# Altium footprint library CHOCO_KEYBOARD.PcbLib: 18 footprints (part 1 of 2)
Each footprint in its own frame and in the unit in brackets; x right, y up, seen from the top. Pads: shape width x height; smd on the part's side, far side on the other; paste and mask are expansions set on the pad; w line width, h text height; cw(c..) or ccw(c..) is an arc to the next point about the centre after c.
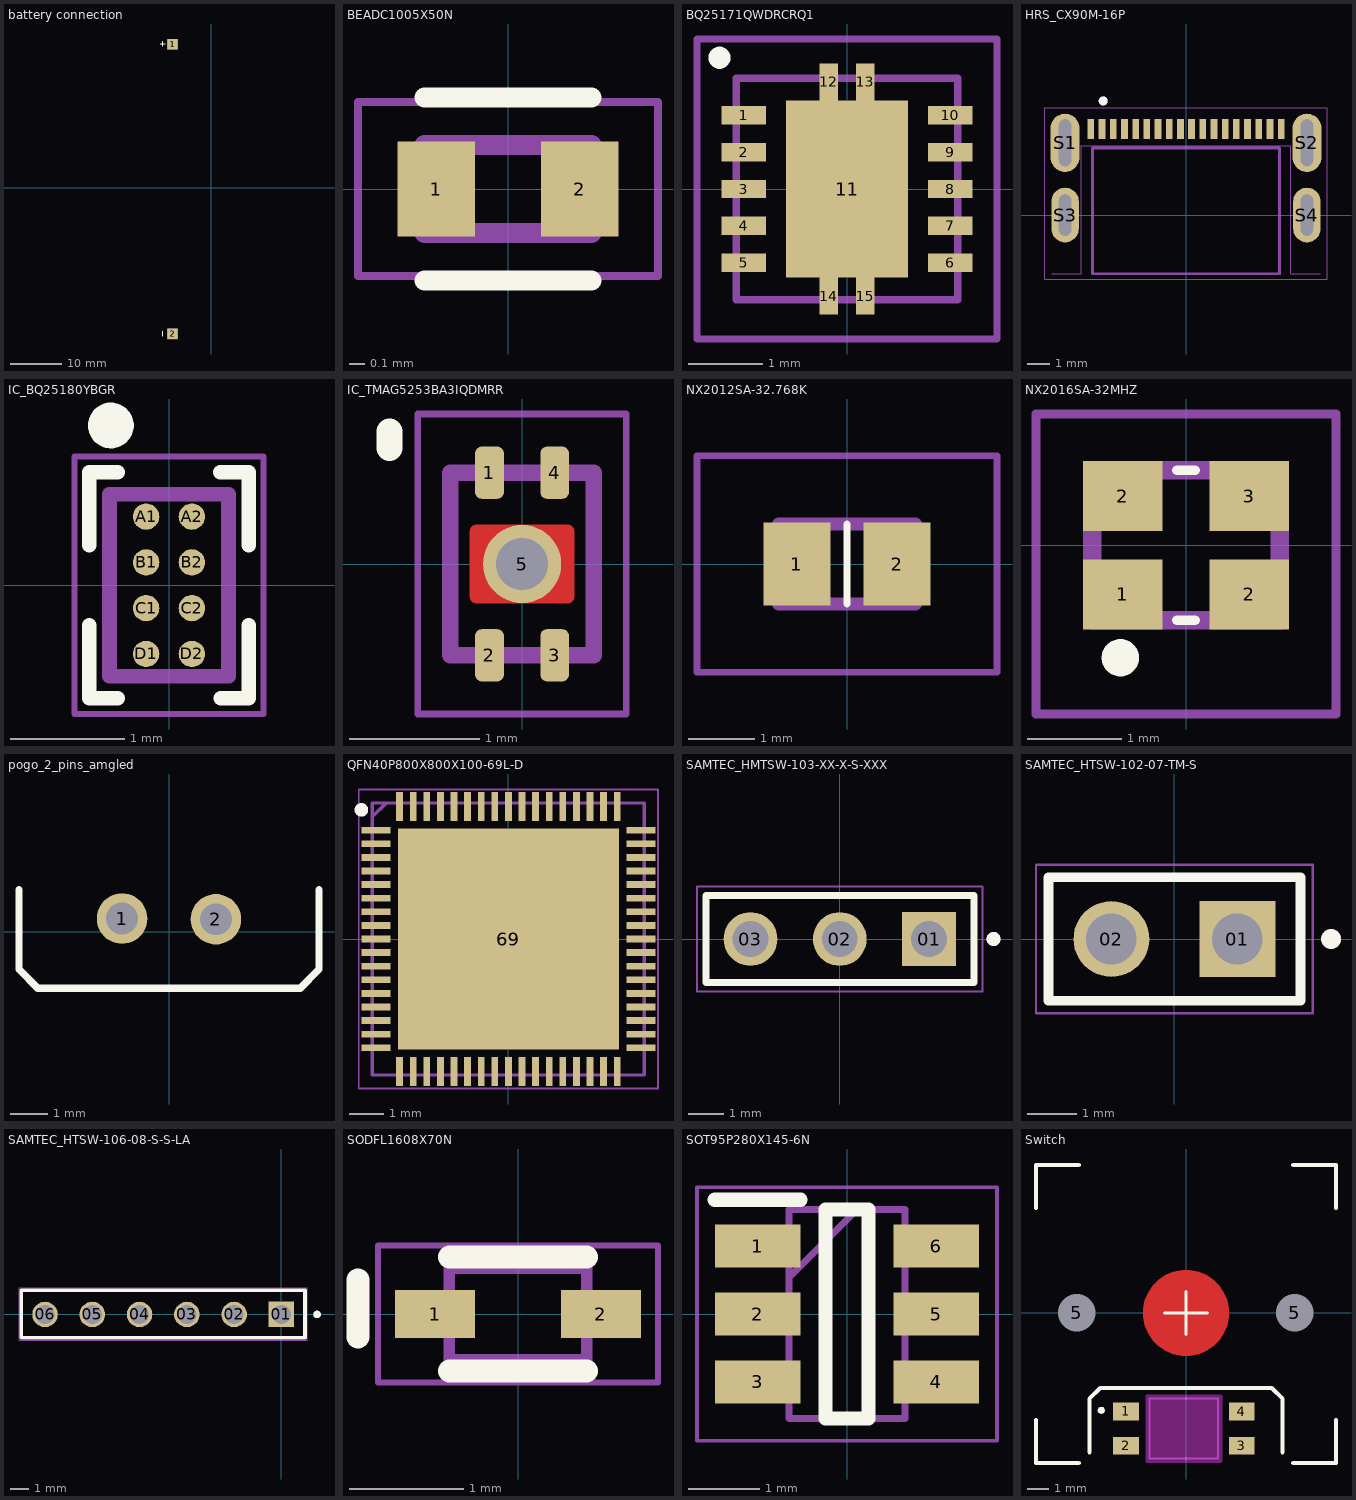
[diagram p0: the footprints below, top view; thin cyan lines are the x and y axes]

## battery connection [mm]
pads (4):
  rect 2x2 smd: 1(-7.5,27.9) 2(-7.5,-28.4)
  rect 2x2 smd far side: 1(-7.5,27.9) 2(-7.5,-28.4)
Top Overlay:
  lines w0.2: -9.9,28 -8.9,28 ; -9.4,-28.9 -9.4,-27.9 ; -9.4,27.5 -9.4,28.5
3D body "User Library-SAFT AA.step": height 9.11, standoff -5.11, extent -3.5,-25.396 10.724,24.896
3D body "battery_holder.STEP": height 8.9, standoff -4.9, extent -10.475,24.9 10.725,28.9
3D body "battery_holder.STEP": height 8.9, standoff -4.9, extent -10.475,-29.4 10.725,-25.4

## BEADC1005X50N [mm]
pads (2):
  rect 0.49x0.6 smd: 1(-0.455,0) 2(0.455,0)
Top Overlay:
  lines w0.127: -0.53,-0.58 0.53,-0.58 ; -0.53,0.58 0.53,0.58
Mechanical 13:
  lines w0.127: -0.53,-0.28 -0.53,0.28 0.53,0.28 0.53,-0.28 -0.53,-0.28
Mechanical 15:
  lines w0.05: -0.95,-0.55 -0.95,0.55 0.95,0.55 0.95,-0.55 -0.95,-0.55
3D body "step_temp.STEP": height 0.55, standoff 0, extent -0.5,-0.25 0.5,0.25

## BQ25171QWDRCRQ1 [mm]
pads (15):
  rect 0.6x0.25 smd: 1(-1.4,1) 2(-1.4,0.5) 3(-1.4,0) 4(-1.4,-0.5) 5(-1.4,-1) 6(1.4,-1) 7(1.4,-0.5) 8(1.4,0) 9(1.4,0.5) 10(1.4,1)
  rect 1.65x2.4 smd: 11(0,0)
  rect 0.25x0.5 smd: 12(-0.25,1.45) 13(0.25,1.45) 14(-0.25,-1.45) 15(0.25,-1.45)
Top Overlay:
  lines w0.2: -1.778,1.778 ccw(c-1.728,1.778) -1.678,1.778 ; -1.778,1.778 cw(c-1.728,1.778) -1.678,1.778 ; -1.778,1.778 ccw(c-1.728,1.778) -1.678,1.778
Mechanical 13:
  lines w0.1: -1.5,-1.5 1.5,-1.5 1.5,1.5 -1.5,1.5 -1.5,-1.5
Mechanical 15:
  lines w0.1: -2.032,-2.032 2.032,-2.032 2.032,2.032 -2.032,2.032 -2.032,-2.032
3D body "BQ25171QWDRCRQ1.stp": height 1, standoff 0, extent -1.5,-1.5 1.5,1.5

## HRS_CX90M-16P [mm]
pads (22):
  rect 0.3x0.9 smd: A1(-3.75,3.85) A4(-2.75,3.85) A5(-1.75,3.85) A6(-0.75,3.85) A7(0.75,3.85) A8(1.75,3.85) A9(2.75,3.85) A12(3.75,3.85) B1(3.25,3.85) B4(2.25,3.85) B5(1.25,3.85) B6(0.25,3.85) B7(-0.25,3.85) B8(-1.25,3.85) B9(-2.25,3.85) B12(-3.25,3.85) MID1(-4.25,3.85) MID2(4.25,3.85)
  oval 1.3x2.6 hole 0.55 slot 2.1 at 90 deg: S1(-5.4,3.23) S2(5.4,3.23)
  oval 1.225x2.45 hole 0.55 slot 1.85 at 90 deg: S3(-5.4,0) S4(5.4,0)
Top Overlay:
  circle w0.2: c-3.7,5.1 r0.1
Mechanical 1:
  lines w0.01: -6,-2.62 -4.675,-2.62 -4.675,3.1 4.675,3.1 4.675,-2.62 6,-2.62
Mechanical 13:
  circle w0.2: c-3.7,5.1 r0.1
  lines w0.127: -4.17,-2.62 -4.17,3 4.17,3 4.17,-2.62 -4.17,-2.62
  text "PCB EDGE" at -3.9,-2.5 h0.41
Mechanical 15:
  lines w0.05: -6.3,-2.87 -6.3,4.8 6.3,4.8 6.3,-2.87 -6.3,-2.87
3D body "CX90M-16P--3DModel-STEP-1.STEP": height 1.61, standoff -1.36, extent -5.5,-2.51 5.5,4.04

## IC_BQ25180YBGR [mm]
pads (8):
  round 0.23 smd paste-1 mask+0.05: A1(-0.2,0.6) A2(0.2,0.6) B1(-0.2,0.2) B2(0.2,0.2) C1(-0.2,-0.2) C2(0.2,-0.2) D1(-0.2,-0.6) D2(0.2,-0.6)
Top Overlay:
  circle w0.2: c-0.508,1.397 r0.1
  lines w0.127: -0.695,-0.35 -0.695,-0.988 -0.45,-0.988 ; -0.695,0.35 -0.695,0.988 -0.45,0.988 ; 0.45,0.988 0.695,0.988 0.695,0.35 ; 0.452,-0.988 0.697,-0.988 0.697,-0.35
Top Paste:
  drawing of 8 lines, arcs and shapes, not listed
Mechanical 13:
  lines w0.127: -0.52,-0.795 0.52,-0.795 0.52,0.795 -0.52,0.795 -0.52,-0.795
Mechanical 15:
  lines w0.05: -0.825,-1.125 0.825,-1.125 0.825,1.125 -0.825,1.125 -0.825,-1.125
3D body "step_temp.STEP": height 0.5, standoff 0, extent -0.52,-0.795 0.52,0.795

## IC_TMAG5253BA3IQDMRR [mm]
height 0.4
pads (5):
  rrect45% 0.22x0.4 smd mask+0: 1(-0.25,0.7) 2(-0.25,-0.7) 3(0.25,-0.7) 4(0.25,0.7)
  round 0.6 hole 0.4 mask+0: 5(0,0)
Top Layer:
  region: 0.358,0.299 0.36,0.299 0.363,0.298 0.365,0.298 0.368,0.297 0.37,0.296 0.373,0.295 0.375,0.293 0.377,0.292 0.379,0.29 0.381,0.289 0.383,0.287 0.385,0.285 0.387,0.283 0.389,0.281 0.39,0.279 0.392,0.277 0.393,0.275 0.395,0.273 0.396,0.27 0.397,0.268 0.398,0.265 0.398,0.263 0.399,0.26 0.399,0.258 0.4,0.255 0.4,0.253 0.4,0.25 0.4,-0.25 0.4,-0.253 0.4,-0.255 0.399,-0.258 0.399,-0.26 0.398,-0.263 0.398,-0.265 0.397,-0.268 0.396,-0.27 0.395,-0.273 0.393,-0.275 0.392,-0.277 0.39,-0.279 0.389,-0.281 0.387,-0.283 0.385,-0.285 0.383,-0.287 0.381,-0.289 0.379,-0.29 0.377,-0.292 0.375,-0.293 0.373,-0.295 0.37,-0.296 0.368,-0.297 0.365,-0.298 0.363,-0.298 0.36,-0.299 0.358,-0.299 0.355,-0.3 -0.355,-0.3 -0.358,-0.299 -0.36,-0.299 -0.363,-0.298 -0.365,-0.298 -0.368,-0.297 -0.37,-0.296 -0.373,-0.295 -0.375,-0.293 -0.377,-0.292 -0.379,-0.29 -0.381,-0.289 -0.383,-0.287 -0.385,-0.285 -0.387,-0.283 -0.389,-0.281 -0.39,-0.279 -0.392,-0.277 -0.393,-0.275 -0.395,-0.273 -0.396,-0.27 -0.397,-0.268 -0.398,-0.265 -0.398,-0.263 -0.399,-0.26 -0.399,-0.258 -0.4,-0.255 -0.4,-0.253 -0.4,-0.25 -0.4,0.25 -0.4,0.253 -0.4,0.255 -0.399,0.258 -0.399,0.26 -0.398,0.263 -0.398,0.265 -0.397,0.268 -0.396,0.27 -0.395,0.273 -0.393,0.275 -0.392,0.277 -0.39,0.279 -0.389,0.281 -0.387,0.283 -0.385,0.285 -0.383,0.287 -0.381,0.289 -0.379,0.29 -0.377,0.292 -0.375,0.293 -0.373,0.295 -0.37,0.296 -0.368,0.297 -0.365,0.298 -0.363,0.298 -0.36,0.299 -0.358,0.299 -0.355,0.3 0.355,0.3
Top Overlay:
  lines w0.2: -1.016,0.889 -1.016,1.016
Top Paste:
  region: 0.338,0.284 0.34,0.284 0.343,0.283 0.345,0.283 0.348,0.282 0.35,0.281 0.353,0.28 0.355,0.278 0.357,0.277 0.359,0.275 0.361,0.274 0.363,0.272 0.365,0.27 0.367,0.268 0.369,0.266 0.37,0.264 0.372,0.262 0.373,0.26 0.375,0.258 0.376,0.255 0.377,0.253 0.378,0.25 0.378,0.248 0.379,0.245 0.379,0.243 0.38,0.24 0.38,0.238 0.38,0.235 0.38,-0.235 0.38,-0.238 0.38,-0.24 0.379,-0.243 0.379,-0.245 0.378,-0.248 0.378,-0.25 0.377,-0.253 0.376,-0.255 0.375,-0.258 0.373,-0.26 0.372,-0.262 0.37,-0.264 0.369,-0.266 0.367,-0.268 0.365,-0.27 0.363,-0.272 0.361,-0.274 0.359,-0.275 0.357,-0.277 0.355,-0.278 0.353,-0.28 0.35,-0.281 0.348,-0.282 0.345,-0.283 0.343,-0.283 0.34,-0.284 0.338,-0.284 0.335,-0.285 -0.335,-0.285 -0.338,-0.284 -0.34,-0.284 -0.343,-0.283 -0.345,-0.283 -0.348,-0.282 -0.35,-0.281 -0.353,-0.28 -0.355,-0.278 -0.357,-0.277 -0.359,-0.275 -0.361,-0.274 -0.363,-0.272 -0.365,-0.27 -0.367,-0.268 -0.369,-0.266 -0.37,-0.264 -0.372,-0.262 -0.373,-0.26 -0.375,-0.258 -0.376,-0.255 -0.377,-0.253 -0.378,-0.25 -0.378,-0.248 -0.379,-0.245 -0.379,-0.243 -0.38,-0.24 -0.38,-0.238 -0.38,-0.235 -0.38,0.235 -0.38,0.238 -0.38,0.24 -0.379,0.243 -0.379,0.245 -0.378,0.248 -0.378,0.25 -0.377,0.253 -0.376,0.255 -0.375,0.258 -0.373,0.26 -0.372,0.262 -0.37,0.264 -0.369,0.266 -0.367,0.268 -0.365,0.27 -0.363,0.272 -0.361,0.274 -0.359,0.275 -0.357,0.277 -0.355,0.278 -0.353,0.28 -0.35,0.281 -0.348,0.282 -0.345,0.283 -0.343,0.283 -0.34,0.284 -0.338,0.284 -0.335,0.285 0.335,0.285
Top Solder:
  drawing of 5 lines, arcs and shapes, not listed
Mechanical 13:
  lines w0.127: -0.55,-0.7 -0.55,0.7 0.55,0.7 0.55,-0.7 -0.55,-0.7
Mechanical 15:
  lines w0.05: -0.8,-1.15 0.8,-1.15 0.8,1.15 -0.8,1.15 -0.8,-1.15
3D body "step_temp.STEP": height 0.4, standoff 0, extent -0.55,-0.7 0.55,0.7

## NX2012SA-32.768K [mm]
pads (2):
  rect 1x1.25 smd: 1(-0.75,0) 2(0.75,0)
Top Overlay:
  lines w0.1: 0,-0.6 0,0.6 0,-0.6
Mechanical 13:
  lines w0.2: -1.025,-0.6 1.025,-0.6 1.025,0.6 -1.025,0.6 -1.025,-0.6
Mechanical 15:
  lines w0.1: -2.25,-1.625 2.25,-1.625 2.25,1.625 -2.25,1.625 -2.25,-1.625
3D body "NX2012SA-32.768K-STD-MUB-1.stp": height 0.55, standoff 0, extent -1.025,-0.6 1.025,0.6

## NX2016SA-32MHZ [mm]
pads (4):
  rect 0.85x0.75 smd: 1(-0.675,-0.525) 2(-0.675,0.525) 2(0.675,-0.525) 3(0.675,0.525)
Top Overlay:
  lines w0.1: -0.1,-0.8 0.1,-0.8 ; -0.1,0.8 0.1,0.8
  lines w0.2: -0.8,-1.2 ccw(c-0.7,-1.2) -0.6,-1.2 ccw(c-0.7,-1.2) -0.8,-1.2
Mechanical 13:
  lines w0.2: -1,-0.8 -1,0.8 1,0.8 1,-0.8 -1,-0.8
Mechanical 15:
  lines w0.1: -1.6,-1.8 -1.6,1.4 1.6,1.4 1.6,-1.8 -1.6,-1.8
3D body "NX2016SA-26MHZ-EXS00A-CS06025.stp": height 0.46, standoff 0.01, extent -1,-0.73 1,0.87

## pogo_2_pins_amgled [mm]
pads (2):
  round 1.35 hole 0.85: 1(-1.25,0.356) 2(1.25,0.339)
Top Overlay:
  lines w0.2: -4,1.125 -4,-1 -3.5,-1.5 3.5,-1.5 4,-1 4,1.125
3D body "pogo pins connector.STEP": height 4.08, standoff -1.57, extent -7.25,-0.006 7.25,6

## QFN40P800X800X100-69L-D [mm]
pads (69):
  rect 0.85x0.2 smd: 1(-3.9,3.2) 2(-3.9,2.8) 3(-3.9,2.4) 4(-3.9,2) 5(-3.9,1.6) 6(-3.9,1.2) 7(-3.9,0.8) 8(-3.9,0.4) 9(-3.9,0) 10(-3.9,-0.4) 11(-3.9,-0.8) 12(-3.9,-1.2) 13(-3.9,-1.6) 14(-3.9,-2) 15(-3.9,-2.4) 16(-3.9,-2.8) 17(-3.9,-3.2) 35(3.9,-3.2) 36(3.9,-2.8) 37(3.9,-2.4) 38(3.9,-2) 39(3.9,-1.6) 40(3.9,-1.2) 41(3.9,-0.8) 42(3.9,-0.4) 43(3.9,0) 44(3.9,0.4) 45(3.9,0.8) 46(3.9,1.2) 47(3.9,1.6) 48(3.9,2) 49(3.9,2.4) 50(3.9,2.8) 51(3.9,3.2)
  rect 0.2x0.85 smd: 18(-3.2,-3.9) 19(-2.8,-3.9) 20(-2.4,-3.9) 21(-2,-3.9) 22(-1.6,-3.9) 23(-1.2,-3.9) 24(-0.8,-3.9) 25(-0.4,-3.9) 26(0,-3.9) 27(0.4,-3.9) 28(0.8,-3.9) 29(1.2,-3.9) 30(1.6,-3.9) 31(2,-3.9) 32(2.4,-3.9) 33(2.8,-3.9) 34(3.2,-3.9) 52(3.2,3.9) 53(2.8,3.9) 54(2.4,3.9) 55(2,3.9) 56(1.6,3.9) 57(1.2,3.9) 58(0.8,3.9) 59(0.4,3.9) 60(0,3.9) 61(-0.4,3.9) 62(-0.8,3.9) 63(-1.2,3.9) 64(-1.6,3.9) 65(-2,3.9) 66(-2.4,3.9) 67(-2.8,3.9) 68(-3.2,3.9)
  rect 6.5x6.5 smd: 69(0,0)
Top Overlay:
  circle w0.2: c-4.325,3.8 r0.1
Mechanical 15:
  lines w0.1: -4,3.6 -3.6,4 ; -4,-4 4,-4 4,4 -4,4 -4,-4
Mechanical 20:
  lines w0.05: -4.4,-4.4 4.4,-4.4 4.4,4.4 -4.4,4.4 -4.4,-4.4

## SAMTEC_HMTSW-103-XX-X-S-XXX [mm]
pads (3):
  rect 1.53x1.53 hole 1.02: 01(2.54,0)
  round 1.53 hole 1.02: 02(0,0) 03(-2.54,0)
Top Overlay:
  circle w0.2: c4.37,0 r0.1
  lines w0.2: -3.81,-1.24 3.81,-1.24 3.81,1.24 -3.81,1.24 -3.81,-1.24
Mechanical 13:
  circle w0.2: c4.37,0 r0.1
  lines w0.1: -3.81,-1.24 -3.81,1.24 3.81,1.24 3.81,-1.24 -3.81,-1.24
Mechanical 15:
  lines w0.05: -4.06,-1.49 -4.06,1.49 4.06,1.49 4.06,-1.49 -4.06,-1.49

## SAMTEC_HTSW-102-07-TM-S [mm]
pads (2):
  rect 1.53x1.53 hole 1.02: 01(1.27,0)
  round 1.53 hole 1.02: 02(-1.27,0)
Top Overlay:
  circle w0.2: c3.16,0 r0.1
  lines w0.2: -2.54,-1.245 -2.54,1.245 2.54,1.245 2.54,-1.245 -2.54,-1.245
Mechanical 13:
  circle w0.2: c3.16,0 r0.1
  lines w0.1: -2.54,-1.245 -2.54,1.245 2.54,1.245 2.54,-1.245 -2.54,-1.245
Mechanical 15:
  lines w0.05: -2.79,-1.495 -2.79,1.495 2.79,1.495 2.79,-1.495 -2.79,-1.495

## SAMTEC_HTSW-106-08-S-S-LA [mm]
pads (6):
  rect 1.37x1.37 / inner round 1.37 / far side rect 1.37x1.37 hole 1.02: 01(0,0)
  round 1.37 hole 1.02: 02(-2.54,0) 03(-5.08,0) 04(-7.62,0) 05(-10.16,0) 06(-12.7,0)
Top Overlay:
  circle w0.2: c1.92,0 r0.1
  lines w0.2: -13.97,-1.246 -13.97,1.294 1.27,1.294 1.27,-1.246 -13.97,-1.246
Mechanical 13:
  circle w0.2: c1.92,0 r0.1
  lines w0.1: -13.97,-1.246 -13.97,1.294 1.27,1.294 1.27,-1.246 -13.97,-1.246
Mechanical 15:
  lines w0.05: -14.097,-1.373 -14.097,1.421 1.397,1.421 1.397,-1.373 -14.097,-1.373

## SODFL1608X70N [mm]
pads (2):
  rect 0.7x0.42 smd: 1(-0.725,0) 2(0.725,0)
Top Overlay:
  lines w0.2: -1.4,-0.2 -1.4,0.3 ; -0.6,-0.5 0.6,-0.5 ; -0.6,0.5 0.6,0.5
Mechanical 15:
  lines w0.1: -0.6,-0.4 -0.6,0.4 0.6,0.4 0.6,-0.4 -0.6,-0.4
Mechanical 20:
  lines w0.05: -1.225,-0.6 -1.225,0.6 1.225,0.6 1.225,-0.6 -1.225,-0.6
3D body "BAT54KFILM.STEP": height 0.7, standoff 0, extent -0.8,-0.4 0.8,0.4

## SOT95P280X145-6N [mm]
pads (6):
  rect 1.2x0.6 smd: 1(-1.25,0.95) 2(-1.25,0) 3(-1.25,-0.95) 4(1.25,-0.95) 5(1.25,0) 6(1.25,0.95)
Top Overlay:
  lines w0.2: -1.85,1.6 -0.65,1.6 ; -0.3,-1.462 -0.3,1.462 0.3,1.462 0.3,-1.462 -0.3,-1.462
Mechanical 13:
  lines w0.1: -0.812,0.512 0.138,1.462 ; -0.812,-1.462 -0.812,1.462 0.812,1.462 0.812,-1.462 -0.812,-1.462
Mechanical 15:
  lines w0.05: -2.1,-1.775 -2.1,1.775 2.1,1.775 2.1,-1.775 -2.1,-1.775
3D body "USBLC6-2SC6.stp": height 1.45, standoff 0, extent -1.4,-1.462 1.4,1.462

## Switch [mm]
pads (6):
  rect 1.2x0.82 smd: 1(-2.8,-4.6) 2(-2.8,-6.2) 3(2.6,-6.2) 4(2.6,-4.6)
  round 1.524 hole 1.75 unplated: 5(-5.1,0) 5(5.08,0)
Top Layer:
  pour cut-out: 0,2 0.197,2 0.583,1.923 0.947,1.772 1.275,1.553 1.553,1.275 1.772,0.947 1.923,0.583 2,0.197 2,0 2,-0.197 1.923,-0.583 1.772,-0.947 1.553,-1.275 1.275,-1.554 0.947,-1.772 0.583,-1.923 0.197,-2 0,-2 -0.197,-2 -0.583,-1.923 -0.947,-1.772 -1.275,-1.554 -1.554,-1.275 -1.772,-0.947 -1.923,-0.583 -2,-0.197 -2,0 -2,0.197 -1.923,0.583 -1.772,0.947 -1.554,1.275 -1.275,1.553 -0.947,1.772 -0.583,1.923 -0.197,2
Top Overlay:
  lines w0.15: -1,0 0,0 ; 0,-1 0,0 ; 0,1 0,0 ; 1,0 0,0
  lines w0.2: -7,-5 -7,-7 -5,-7 ; -7,4.9 -7,6.9 -5,6.9 ; -4.5,-6.5 -4.5,-4 -4,-3.5 4,-3.5 4.5,-4 4.5,-6.5 ; -4.028,-4.549 -3.887,-4.549 ; -4,-4.6 -3.9,-4.5 ; -4,-4.5 -3.9,-4.6 ; -3.95,-4.621 -3.95,-4.479 ; 5,-7 7,-7 7,-5 ; 5,6.9 7,6.9 7,4.9
Keep-Out Layer:
  board cut-out: 1.6,-3.9 1.6,-6.9 -1.8,-6.9 -1.8,-3.9
Keep-Out Layer:
  lines w0.2: -1.8,-6.9 1.6,-6.9 1.6,-3.9 -1.8,-3.9 -1.8,-6.9
Mechanical 13:
  lines w0.1: -1.7,-6.8 1.5,-6.8 1.5,-4 -1.7,-4 -1.7,-6.8
3D body "SK6812MINI-E.stp": height 0.98, standoff -0.8, extent -2.99,-6.8 2.89,-4
3D body "KS-20TF10B045NW-Y89 FB3D 20240921???.stp": height 15.27, standoff -2.65, extent -7.551,-8.05 7.551,8.05